# Altium footprint library Battery Holder.PcbLib: 1 footprints
Each footprint in its own frame and in the unit in brackets; x right, y up, seen from the top. Pads: shape width x height; smd on the part's side, far side on the other; paste and mask are expansions set on the pad; w line width, h text height; cw(c..) or ccw(c..) is an arc to the next point about the centre after c.
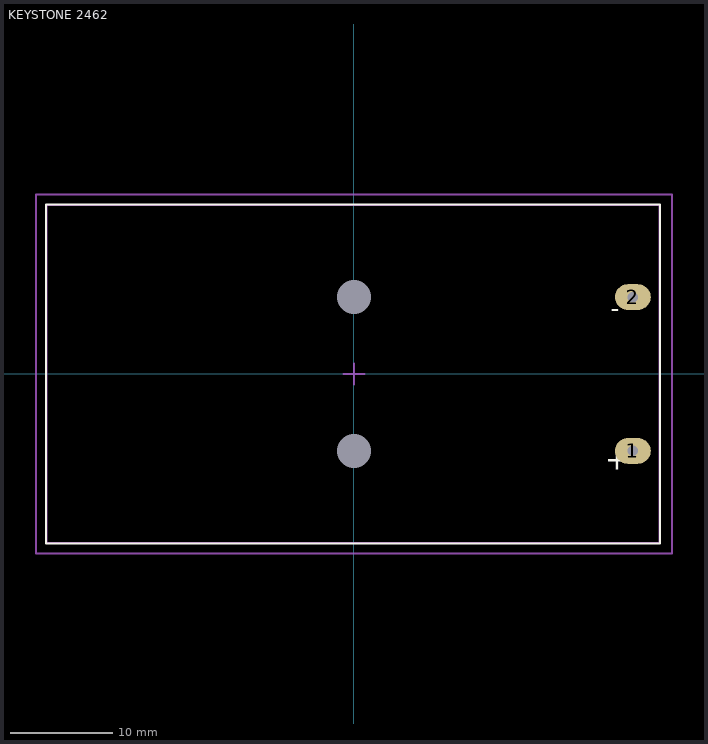
[diagram p0: the footprint, top view; thin cyan lines are the x and y axes]

## KEYSTONE 2462 [mm]
height 16
pads (4):
  oval 3.5x2.5 hole 1.02 unplated: 1(27.165,-7.495) 2(27.165,7.495)
  rect 0x0 hole 3.3 unplated: M(-0.015,-7.495) M(-0.015,7.495)
Top Overlay:
  lines w0.2: -30,-16.5 -30,16.5 29.8,16.5 29.8,-16.5 -30,-16.5
  text "+" at 24.5,-10 h3.5
  text "-" at 25,5 h3
Mechanical 1:
  lines w0.2: -29.959,-16.459 29.755,-16.459 29.755,16.459 -29.959,16.459 -29.959,-16.459
Mechanical 15:
  lines w0.2: -1,0 1,0 ; 0,-1 0,1 ; -31,-17.5 -31,17.5 31,17.5 31,-17.5 -31,-17.5
3D body "Keystone 2462 Twin AA.STEP": height 16, standoff -11.99, extent -29.959,-16.459 29.755,16.459